# EAGLE library part TAS5630BDKD (library Audio-Power-amlifier V.2.0)
300W STEREO / 600W MONO PurePath ? HD ANALOG-INPUT POWER STAGE CW07/2009
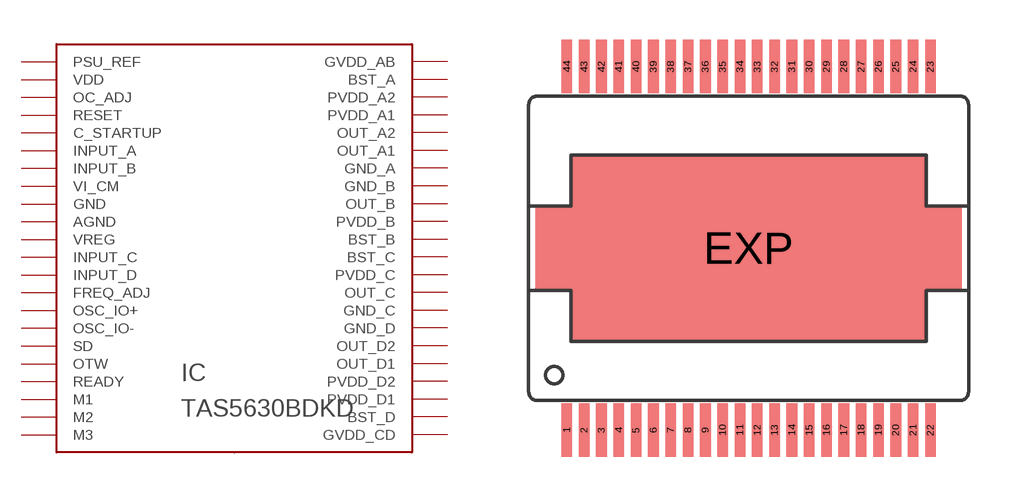
[diagram p54: symbol with the pads of HSSOP-44-DKD; footprint HSSOP-44-DKD]

Designator prefix IC

## TAS5630BDKD  [HSSOP-44-DKD]
1  PSU_REF
2  VDD
3  OC_ADJ
4  RESET
5  C_STARTUP
6  INPUT_A
7  INPUT_B
8  VI_CM
9  GND
10  AGND
11  VREG
12  INPUT_C
13  INPUT_D
14  FREQ_ADJ
15  OSC_IO+
16  OSC_IO-
17  SD
18  OTW
19  READY
20  M1
21  M2
22  M3
23  GVDD_CD
24  BST_D
25  PVDD_D1
26  PVDD_D2
27  OUT_D1
28  OUT_D2
29  GND_D
30  GND_C
31  OUT_C
32  PVDD_C
33  BST_C
34  BST_B
35  PVDD_B
36  OUT_B
37  GND_B
38  GND_A
39  OUT_A1
40  OUT_A2
41  PVDD_A1
42  PVDD_A2
43  BST_A
44  GVDD_AB

## Footprint HSSOP-44-DKD (pad centres in mm)
HSSOP44-DKD. www.ti.com/audio
smd 0.4 x 2: 1 -6.825,-6.825; 2 -6.175,-6.825; 3 -5.525,-6.825; 4 -4.875,-6.825; 5 -4.225,-6.825; 6 -3.575,-6.825; 7 -2.925,-6.825; 8 -2.275,-6.825; 9 -1.625,-6.825; 10 -0.975,-6.825; 11 -0.325,-6.825; 12 0.325,-6.825; 13 0.975,-6.825; 14 1.625,-6.825; 15 2.275,-6.825; 16 2.925,-6.825; 17 3.575,-6.825; 18 4.225,-6.825; 19 4.875,-6.825; 20 5.525,-6.825; 21 6.175,-6.825; 22 6.825,-6.825; 23 6.825,6.825; 24 6.175,6.825; 25 5.525,6.825; 26 4.875,6.825; 27 4.225,6.825; 28 3.575,6.825; 29 2.925,6.825; 30 2.275,6.825; 31 1.625,6.825; 32 0.975,6.825; 33 0.325,6.825; 34 -0.325,6.825; 35 -0.975,6.825; 36 -1.625,6.825; 37 -2.275,6.825; 38 -2.925,6.825; 39 -3.575,6.825; 40 -4.225,6.825; 41 -4.875,6.825; 42 -5.525,6.825; 43 -6.175,6.825; 44 -6.825,6.825
smd 13.3 x 7: EXP 0,0